# Altium schematic symbol library connectors.SchLib: 10 symbols
Pins are listed as number, name and electrical type; pins without a type are passive.

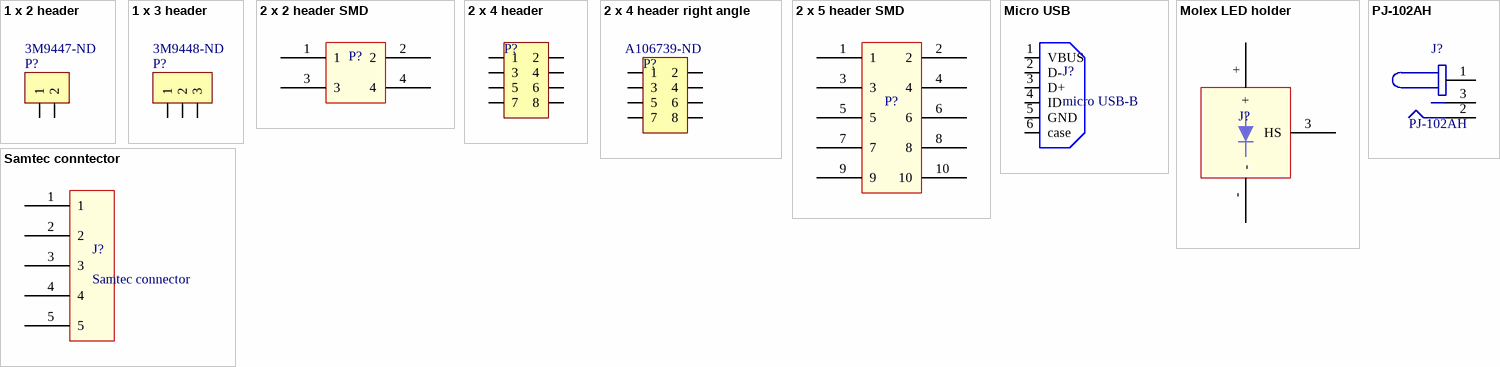
[diagram p0: symbols 1 x 2 header to Samtec conntector]

## 1 x 2 header
designator P?  Supplier Part Number 1: 3M9447-ND  (hidden comment: 1 x 2 header)
100 mils standard header; Supplier 1: Digi-Key
footprint 1x2 header (1x2 header, 100 mils)
pins: 1, 2

## 1 x 3 header
designator P?  Supplier Part Number 1: 3M9448-ND  (hidden comment: 1 x 3 header)
100 mils standard header; Supplier 1: Digi-Key
footprint 1x3 header (1x3 header, 100 mils)
pins: 1, 2, 3

## 2 x 2 header SMD
designator P?  (value not drawn)
2x2 100 mil header SMD; Supplier 1: Digi-Key; Supplier Part Number 1: 609-4463-6-ND
footprint 2x2 header SMD (100 mils header, SMD)
pins: 1, 2, 3, 4

## 2 x 4 header
designator P?  (value not drawn)
100 mils standard header; Supplier 1: Digi-Key; Supplier Part Number 1: 952-2122-ND
footprint 2x4 header (2x4 header, 100 mils)
pins: 1, 2, 3, 4 (power), 5 (power), 6 (power), 7 (power), 8 (power)

## 2 x 4 header right angle
designator P?  Supplier Part Number 1: A106739-ND  (hidden comment: 2 x 4 header right angle)
100 mils standard header; Supplier 1: Digi-Key
footprint 2x4 header, right angle (2x4 header, 100 mils, right angle)
pins: 1, 2, 3, 4 (power), 5 (power), 6 (power), 7 (power), 8 (power)

## 2 x 5 header SMD
designator P?  (value not drawn)
2x5 100 mil header SMD; Supplier 1: Digi-Key; Supplier Part Number 1: 609-4723-ND
footprint 2x5 header SMD (100 mils header, SMD)
pins: 1, 2, 3, 4, 5, 6, 7, 8, 9, 10

## Micro USB
designator J?, comment micro USB-B
CONN USB MICRO B RECPT SMT R/A; Supplier 1: Digi-Key; Supplier Part Number 1: 609-4616-6-ND
footprint Micro USB-B
pins: 1 VBUS (power), 2 D- (power), 3 D+ (power), 4 ID (power), 5 GND (power), 6 case (power)

## Molex LED holder
designator J?, comment 1807200002  (value not drawn)
LED Array Holders  for CREE* XLamp†   Arrays; Supplier 1: Digi-Key; Supplier Part Number 1: WM10352-ND
footprint molex (CREE LED holder)
pins: 3 HS, +, -

## PJ-102AH
designator J?
CONN PWR JACK 2.1X5.5MM HIGH CUR; Supplier 1: Digi-Key; Supplier Part Number 1: CP-102AH-ND
footprint PJ-102AH (Power Jack)
pins: 1, 2, 3

## Samtec conntector
designator J?, comment Samtec connector
Samtec connector, 1.27 mm, single row, 5 pos SMD; Supplier 1: Samtec
footprint SFM-105-02-L-S (Samtec TFM, single row, 5 pos)
footprint TFM-105-02-L-S (Samtec TFM, single row, 5 pos)
pins: 1, 2, 3, 4, 5